# Altium schematic symbol library 282841-2.SchLib: 1 symbol
Pins are listed as number, name and electrical type; pins without a type are passive.

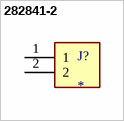
[diagram p0: symbol 282841-2]

## 282841-2
designator J?
Conn Terminal Block 2 POS 5.08mm Solder ST Thru-Hole 17.5A/Contact; MP: 282841-2; MF: TE Connectivity; Purchase-URL: https://pricing.snapeda.com/search/part/282841-2/?ref=eda; SnapEDA_Link: https://www.snapeda.com/parts/282841-2/TE+Connectivity+AMP+Connectors/view-part/?ref=snap; Package: None; Check_prices: https://www.snapeda.com/parts/282841-2/TE+Connectivity+AMP+Connectors/view-part/?ref=eda; EU_RoHS_Compliance: Compliant with Exemptions; Price: None; Availability: In Stock; Value: *
footprint TE_282841-2
pins: 1, 2